# EAGLE library part M7X2 (library JOSIAHLIB)
0.1" pitched headers, 7x2.
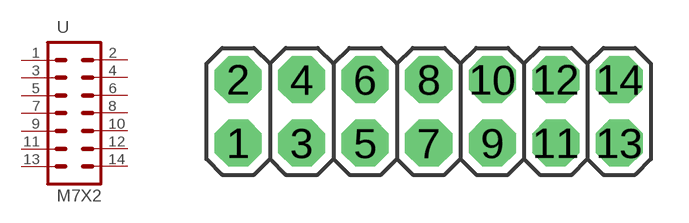
[diagram p0: symbol with the pads of M07X2; footprint M07X2]

Designator prefix -

## M7X2UIFCONNECTOR  [M07X2]
1  1  pas
2  2  pas
3  3  pas
4  4  pas
5  5  pas
6  6  pas
7  7  pas
8  8  pas
9  9  pas
10  10  pas
11  11  pas
12  12  pas
13  13  pas
14  14  pas

## Footprint M07X2 (pad centres in mm)
MSP430FET-UIF connector 0.1in pitched headers adapted from Sparkfun library. 7x2 for connecting to the MSP430FET-UIF
drill 1.016 pad 1.88 octagon: 1 -11.43,0; 2 -11.43,2.54; 3 -8.89,0; 4 -8.89,2.54; 5 -6.35,0; 6 -6.35,2.54; 7 -3.81,0; 8 -3.81,2.54; 9 -1.27,0; 10 -1.27,2.54; 11 1.27,0; 12 1.27,2.54; 13 3.81,0; 14 3.81,2.54